# EAGLE library part 24AA1025-I/P (library ipas)
CMOS Serial EEPROM
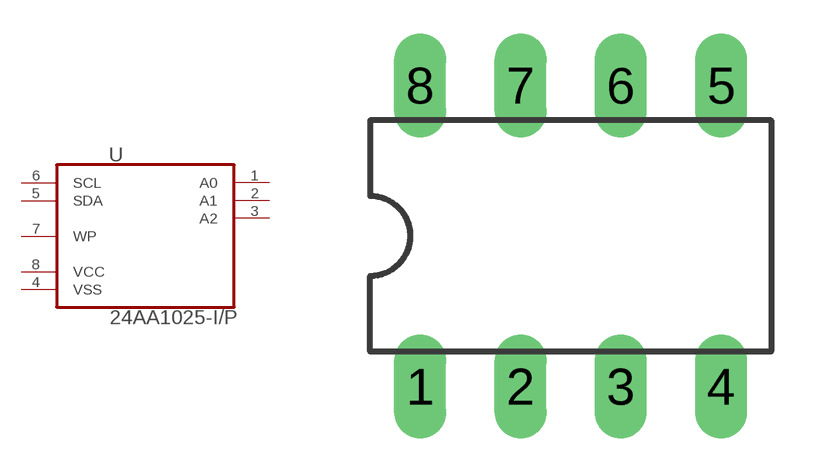
[diagram p15: symbol with the pads of DIL08; footprint DIL08]

Designator prefix U

## 24AA1025-I/P  [DIL08]
1  A0  in
2  A1  in
3  A2  in
4  VSS  pas
5  SDA
6  SCL  in
7  WP  in
8  VCC  pwr

## Footprint DIL08 (pad centres in mm)
Dual In Line Package
drill 0.813 long: 1 -3.81,-3.81; 2 -1.27,-3.81; 3 1.27,-3.81; 4 3.81,-3.81; 5 3.81,3.81; 6 1.27,3.81; 7 -1.27,3.81; 8 -3.81,3.81